# EAGLE library part CAT24C16LI-G (library ON Semiconductor_By_element14_Batch_1)
CMOS Serial EEPROM
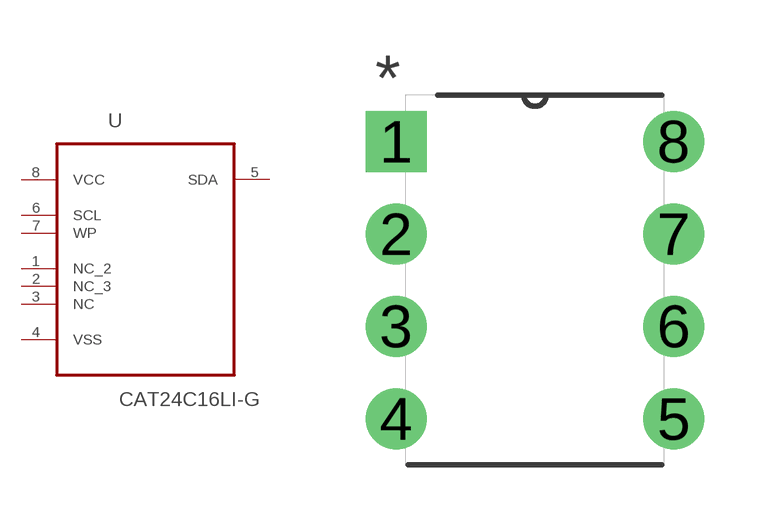
[diagram p14: symbol with the pads of DIP254P762X533-8; footprint DIP254P762X533-8]

Designator prefix U

## CAT24C16LI-G (MPN: CAT24C16LI-G; OC_FARNELL: 1718037; OC_NEWARK: 06R0533; PACKAGE: PDIP; SUPPLIER: ON SEMICONDUCTOR)  [DIP254P762X533-8]
1  NC_2  nc
2  NC_3  nc
3  NC  nc
4  VSS  pas
5  SDA
6  SCL  in
7  WP  in
8  VCC  pwr

## Footprint DIP254P762X533-8 (pad centres in mm)
drill 1.118 square: 1 -7.62,7.62
drill 1.118: 2 -7.62,5.08; 3 -7.62,2.54; 4 -7.62,0; 5 0,0; 6 0,2.54; 7 0,5.08; 8 0,7.62